# EAGLE library part 315-5535 (library Sega GG ICv7)
Sega Game Gear Asic Version VA1 315-5535
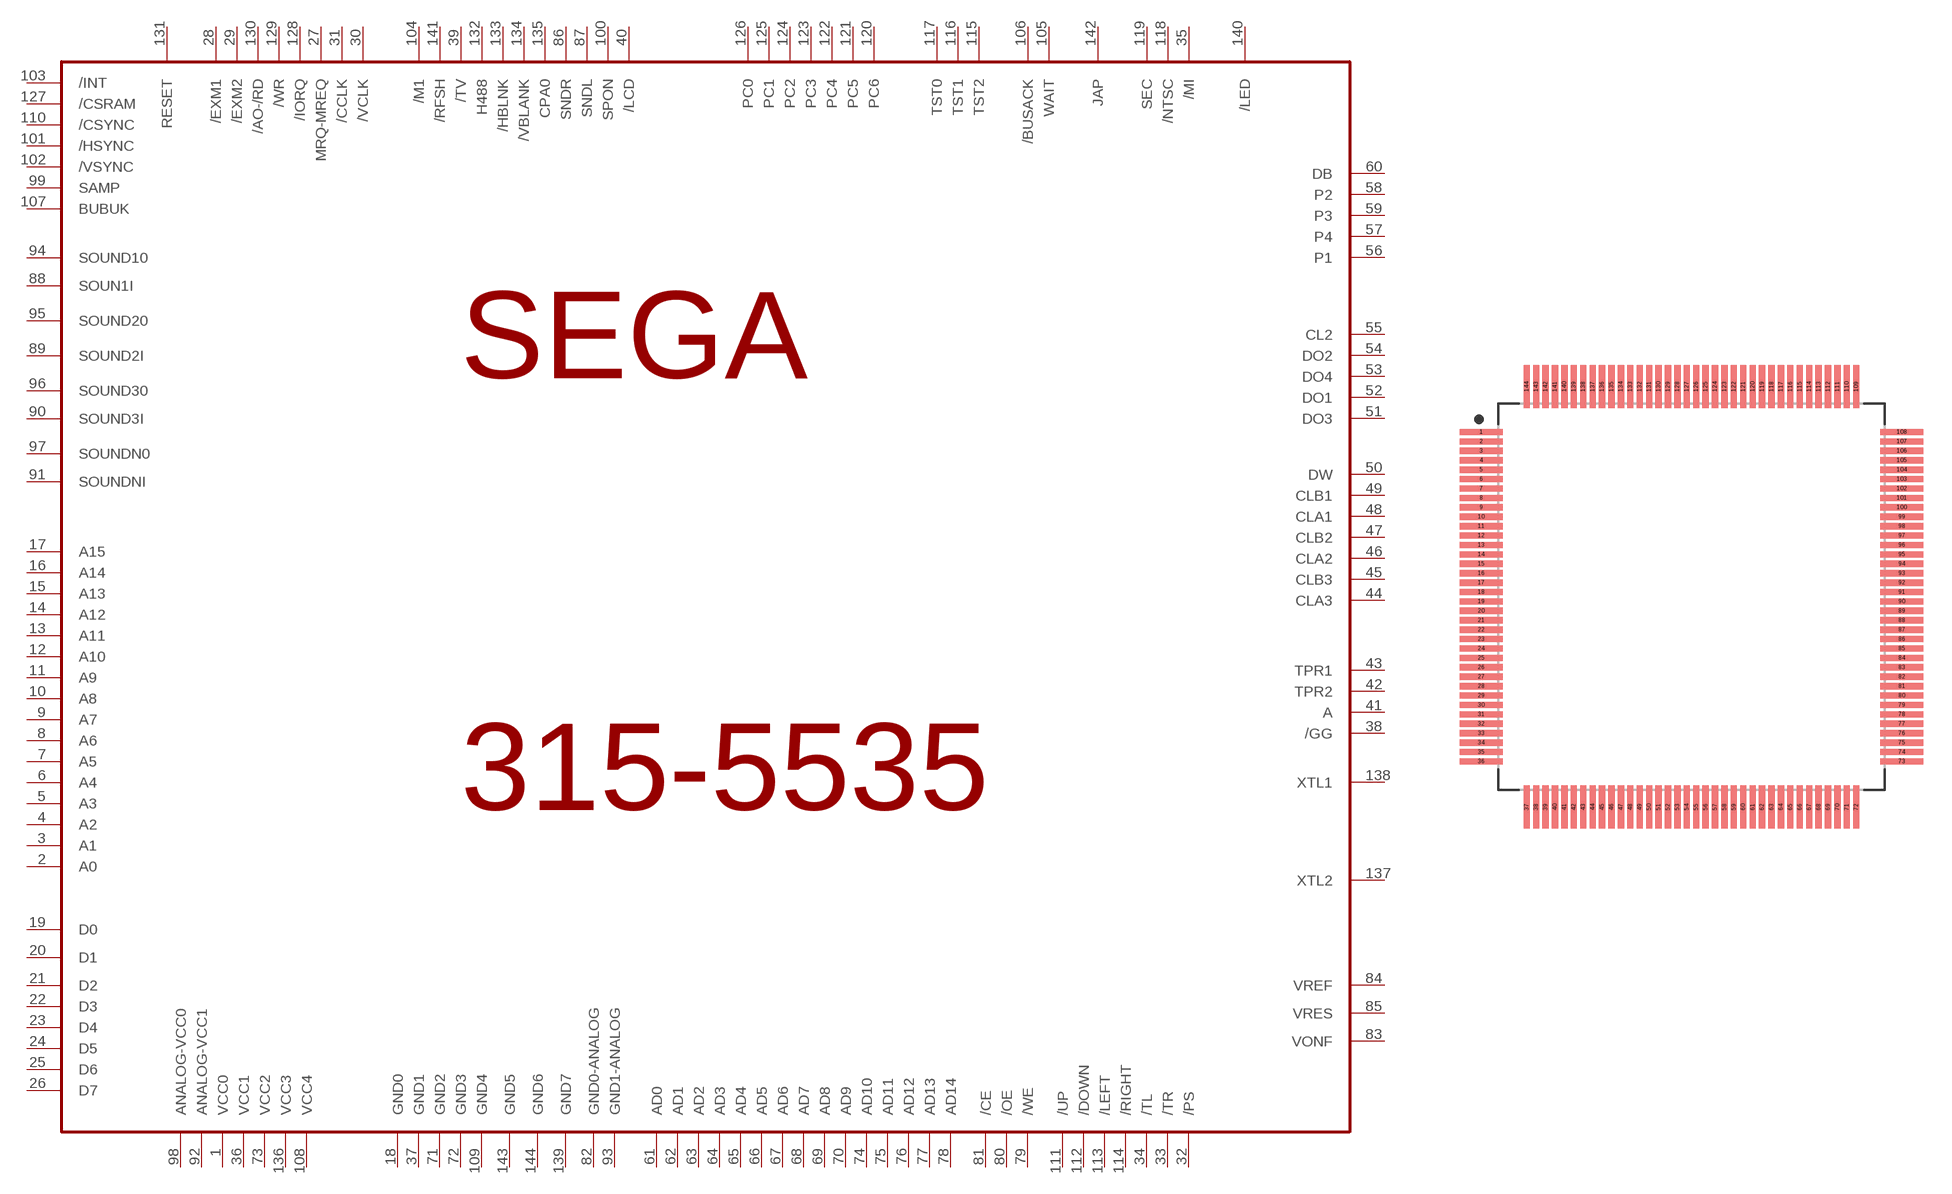
[diagram p4: symbol with the pads of QFP50P2325X2325X120-145T700; footprint QFP50P2325X2325X120-145T700]

Designator prefix -

## 315-5535-VA1  [QFP50P2325X2325X120-145T700]
1  VCC0
2  A0
3  A1
4  A2
5  A3
6  A4
7  A5
8  A6
9  A7
10  A8
11  A9
12  A10
13  A11
14  A12
15  A13
16  A14
17  A15
18  GND0
19  D0
20  D1
21  D2
22  D3
23  D4
24  D5
25  D6
26  D7
27  MRQ-MREQ
28  /EXM1
29  /EXM2
30  /VCLK
31  /CCLK
32  /PS
33  /TR
34  /TL
35  /MI
36  VCC1
37  GND1
38  /GG
39  /TV
40  /LCD
41  A
42  TPR2
43  TPR1
44  CLA3
45  CLB3
46  CLA2
47  CLB2
48  CLA1
49  CLB1
50  DW
51  DO3
52  DO1
53  DO4
54  DO2
55  CL2
56  P1
57  P4
58  P2
59  P3
60  DB
61  AD0
62  AD1
63  AD2
64  AD3
65  AD4
66  AD5
67  AD6
68  AD7
69  AD8
70  AD9
71  GND2
72  GND3
73  VCC2
74  AD10
75  AD11
76  AD12
77  AD13
78  AD14
79  /WE
80  /OE
81  /CE
82  GND0-ANALOG
83  VONF
84  VREF
85  VRES
86  SNDR
87  SNDL
88  SOUN1I
89  SOUND2I
90  SOUND3I
91  SOUNDNI
92  ANALOG-VCC1
93  GND1-ANALOG
94  SOUND10
95  SOUND20
96  SOUND30
97  SOUNDN0
98  ANALOG-VCC0
99  SAMP
100  SPON
101  /HSYNC
102  /VSYNC
103  /INT
104  /M1
105  WAIT
106  /BUSACK
107  BUBUK
108  VCC4
109  GND4
110  /CSYNC
111  /UP
112  /DOWN
113  /LEFT
114  /RIGHT
115  TST2
116  TST1
117  TST0
118  /NTSC
119  SEC
120  PC6
121  PC5
122  PC4
123  PC3
124  PC2
125  PC1
126  PC0
127  /CSRAM
128  /IORQ
129  /WR
130  /AO-/RD
131  RESET
132  H488
133  /HBLNK
134  /VBLANK
135  CPA0
136  VCC3
137  XTL2
138  XTL1
139  GND7
140  /LED
141  /RFSH
142  JAP
143  GND5
144  GND6

## Footprint QFP50P2325X2325X120-145T700 (pad centres in mm)
144-QFP, 0.50 mm pitch, 23.25 mm span, 19.95 X 19.95 X 1.20 mm body, 7.00 X 7.00 mm thermal pad 144-pin QFP package with 0.50 mm pitch, 23.25 mm lead span1 X 23.25 mm lead span2 with body size 19.95 X 19.95 X 1.20 mm and thermal pad size 7.00 X 7.00 mm
smd 2.278 x 0.332: 1 -11.167,8.75; 2 -11.167,8.25; 3 -11.167,7.75; 4 -11.167,7.25; 5 -11.167,6.75; 6 -11.167,6.25; 7 -11.167,5.75; 8 -11.167,5.25; 9 -11.167,4.75; 10 -11.167,4.25; 11 -11.167,3.75; 12 -11.167,3.25; 13 -11.167,2.75; 14 -11.167,2.25; 15 -11.167,1.75; 16 -11.167,1.25; 17 -11.167,0.75; 18 -11.167,0.25; 19 -11.167,-0.25; 20 -11.167,-0.75; 21 -11.167,-1.25; 22 -11.167,-1.75; 23 -11.167,-2.25; 24 -11.167,-2.75; 25 -11.167,-3.25; 26 -11.167,-3.75; 27 -11.167,-4.25; 28 -11.167,-4.75; 29 -11.167,-5.25; 30 -11.167,-5.75; 31 -11.167,-6.25; 32 -11.167,-6.75; 33 -11.167,-7.25; 34 -11.167,-7.75; 35 -11.167,-8.25; 36 -11.167,-8.75; 73 11.167,-8.75; 74 11.167,-8.25; 75 11.167,-7.75; 76 11.167,-7.25; 77 11.167,-6.75; 78 11.167,-6.25; 79 11.167,-5.75; 80 11.167,-5.25; 81 11.167,-4.75; 82 11.167,-4.25; 83 11.167,-3.75; 84 11.167,-3.25; 85 11.167,-2.75; 86 11.167,-2.25; 87 11.167,-1.75; 88 11.167,-1.25; 89 11.167,-0.75; 90 11.167,-0.25; 91 11.167,0.25; 92 11.167,0.75; 93 11.167,1.25; 94 11.167,1.75; 95 11.167,2.25; 96 11.167,2.75; 97 11.167,3.25; 98 11.167,3.75; 99 11.167,4.25; 100 11.167,4.75; 101 11.167,5.25; 102 11.167,5.75; 103 11.167,6.25; 104 11.167,6.75; 105 11.167,7.25; 106 11.167,7.75; 107 11.167,8.25; 108 11.167,8.75
smd 0.332 x 2.278: 37 -8.75,-11.167; 38 -8.25,-11.167; 39 -7.75,-11.167; 40 -7.25,-11.167; 41 -6.75,-11.167; 42 -6.25,-11.167; 43 -5.75,-11.167; 44 -5.25,-11.167; 45 -4.75,-11.167; 46 -4.25,-11.167; 47 -3.75,-11.167; 48 -3.25,-11.167; 49 -2.75,-11.167; 50 -2.25,-11.167; 51 -1.75,-11.167; 52 -1.25,-11.167; 53 -0.75,-11.167; 54 -0.25,-11.167; 55 0.25,-11.167; 56 0.75,-11.167; 57 1.25,-11.167; 58 1.75,-11.167; 59 2.25,-11.167; 60 2.75,-11.167; 61 3.25,-11.167; 62 3.75,-11.167; 63 4.25,-11.167; 64 4.75,-11.167; 65 5.25,-11.167; 66 5.75,-11.167; 67 6.25,-11.167; 68 6.75,-11.167; 69 7.25,-11.167; 70 7.75,-11.167; 71 8.25,-11.167; 72 8.75,-11.167; 109 8.75,11.167; 110 8.25,11.167; 111 7.75,11.167; 112 7.25,11.167; 113 6.75,11.167; 114 6.25,11.167; 115 5.75,11.167; 116 5.25,11.167; 117 4.75,11.167; 118 4.25,11.167; 119 3.75,11.167; 120 3.25,11.167; 121 2.75,11.167; 122 2.25,11.167; 123 1.75,11.167; 124 1.25,11.167; 125 0.75,11.167; 126 0.25,11.167; 127 -0.25,11.167; 128 -0.75,11.167; 129 -1.25,11.167; 130 -1.75,11.167; 131 -2.25,11.167; 132 -2.75,11.167; 133 -3.25,11.167; 134 -3.75,11.167; 135 -4.25,11.167; 136 -4.75,11.167; 137 -5.25,11.167; 138 -5.75,11.167; 139 -6.25,11.167; 140 -6.75,11.167; 141 -7.25,11.167; 142 -7.75,11.167; 143 -8.25,11.167; 144 -8.75,11.167